# Altium schematic symbol library SnapEDAsch.SchLib: 1 symbol
Pins are listed as number, name and electrical type; pins without a type are passive.

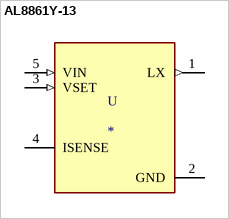
[diagram p0: symbol AL8861Y-13]

## AL8861Y-13
designator U
LED Driver IC 1 Output DC DC Regulator Step-Down _Buck_ Analog, PWM Dimming 1.5A SOT-89-5; MP: AL8861Y-13; MF: Diodes Inc.; Availability: Unavailable; SnapEDA_Link: https://www.snapeda.com/parts/AL8861Y-13/Diodes%20Inc./view-part/1241445/?ref=snap; Price: None; Package: SOT-89 Diodes Inc.; Value: *
footprint CONV_AL8861Y-13
pins: 1 LX (out), 2 GND (power), 3 VSET (in), 4 ISENSE, 5 VIN (in)